# EAGLE library part ADM2483BRWZ (library graftel-internal-ic)
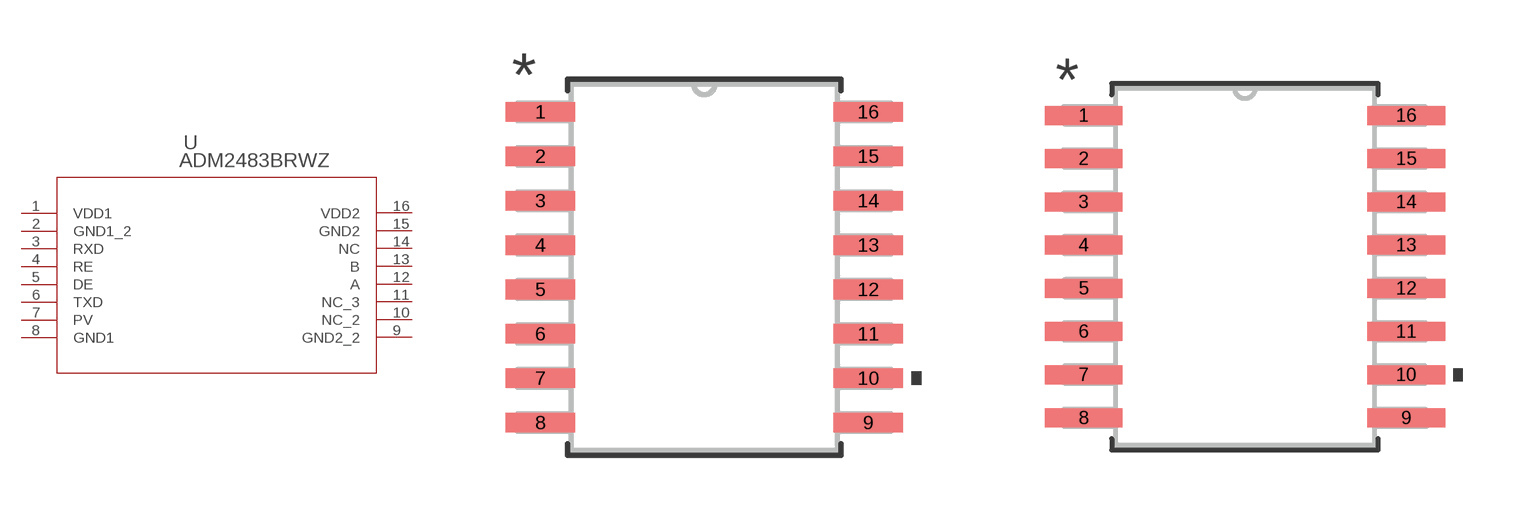
[diagram p90: symbol with the pads of RW_16_ADI; footprints RW_16_ADI, RW_16_ADI-M]

Designator prefix U

## ADM2483BRWZ (BUILT_BY: EMA_UL_Team; MANUFACTURER_PART_NUMBER: ADM2483BRWZ; SOURCELIBRARY: Analog_2012-01-01_7; VENDOR: Analog Devices Inc)  [RW_16_ADI]
1  VDD1  pwr
2  GND1_2  pas
3  RXD  pas
4  RE  pas
5  DE  pas
6  TXD  pas
7  PV  pas
8  GND1  pas
9  GND2_2  pas
10  NC_2  pas
11  NC_3  pas
12  A  pas
13  B  pas
14  NC  pas
15  GND2  pas
16  VDD2  pwr

## ADM2483BRWZRW_16_ADI-M (BUILT_BY: EMA_UL_Team; MANUFACTURER_PART_NUMBER: ADM2483BRWZ; SOURCELIBRARY: Analog_2012-01-01_7; VENDOR: Analog Devices Inc)  [RW_16_ADI-M]
Pads as for RW_16_ADI

## ADM2483BRWZRW_16_ADI-L (BUILT_BY: EMA_UL_Team; MANUFACTURER_PART_NUMBER: ADM2483BRWZ; SOURCELIBRARY: Analog_2012-01-01_7; VENDOR: Analog Devices Inc)  [RW_16_ADI-L]
Pads as for RW_16_ADI

## Footprint RW_16_ADI (pad centres in mm)
smd 1.981 x 0.559: 1 -4.686,4.445; 2 -4.686,3.175; 3 -4.686,1.905; 4 -4.686,0.635; 5 -4.686,-0.635; 6 -4.686,-1.905; 7 -4.686,-3.175; 8 -4.686,-4.445; 9 4.686,-4.445; 10 4.686,-3.175; 11 4.686,-1.905; 12 4.686,-0.635; 13 4.686,0.635; 14 4.686,1.905; 15 4.686,3.175; 16 4.686,4.445

## Footprint RW_16_ADI-M (pad centres in mm)
smd 2.286 x 0.559: 1 -4.737,4.445; 2 -4.737,3.175; 3 -4.737,1.905; 4 -4.737,0.635; 5 -4.737,-0.635; 6 -4.737,-1.905; 7 -4.737,-3.175; 8 -4.737,-4.445; 9 4.737,-4.445; 10 4.737,-3.175; 11 4.737,-1.905; 12 4.737,-0.635; 13 4.737,0.635; 14 4.737,1.905; 15 4.737,3.175; 16 4.737,4.445

## Footprint RW_16_ADI-L (pad centres in mm)
smd 1.676 x 0.508: 1 -4.636,4.445; 2 -4.636,3.175; 3 -4.636,1.905; 4 -4.636,0.635; 5 -4.636,-0.635; 6 -4.636,-1.905; 7 -4.636,-3.175; 8 -4.636,-4.445; 9 4.636,-4.445; 10 4.636,-3.175; 11 4.636,-1.905; 12 4.636,-0.635; 13 4.636,0.635; 14 4.636,1.905; 15 4.636,3.175; 16 4.636,4.445